# Altium footprint library PCBLib.PcbLib: 168 footprints (part 3 of 11)
Each footprint in its own frame and in the unit in brackets; x right, y up, seen from the top. Pads: shape width x height; smd on the part's side, far side on the other; paste and mask are expansions set on the pad; w line width, h text height; cw(c..) or ccw(c..) is an arc to the next point about the centre after c.
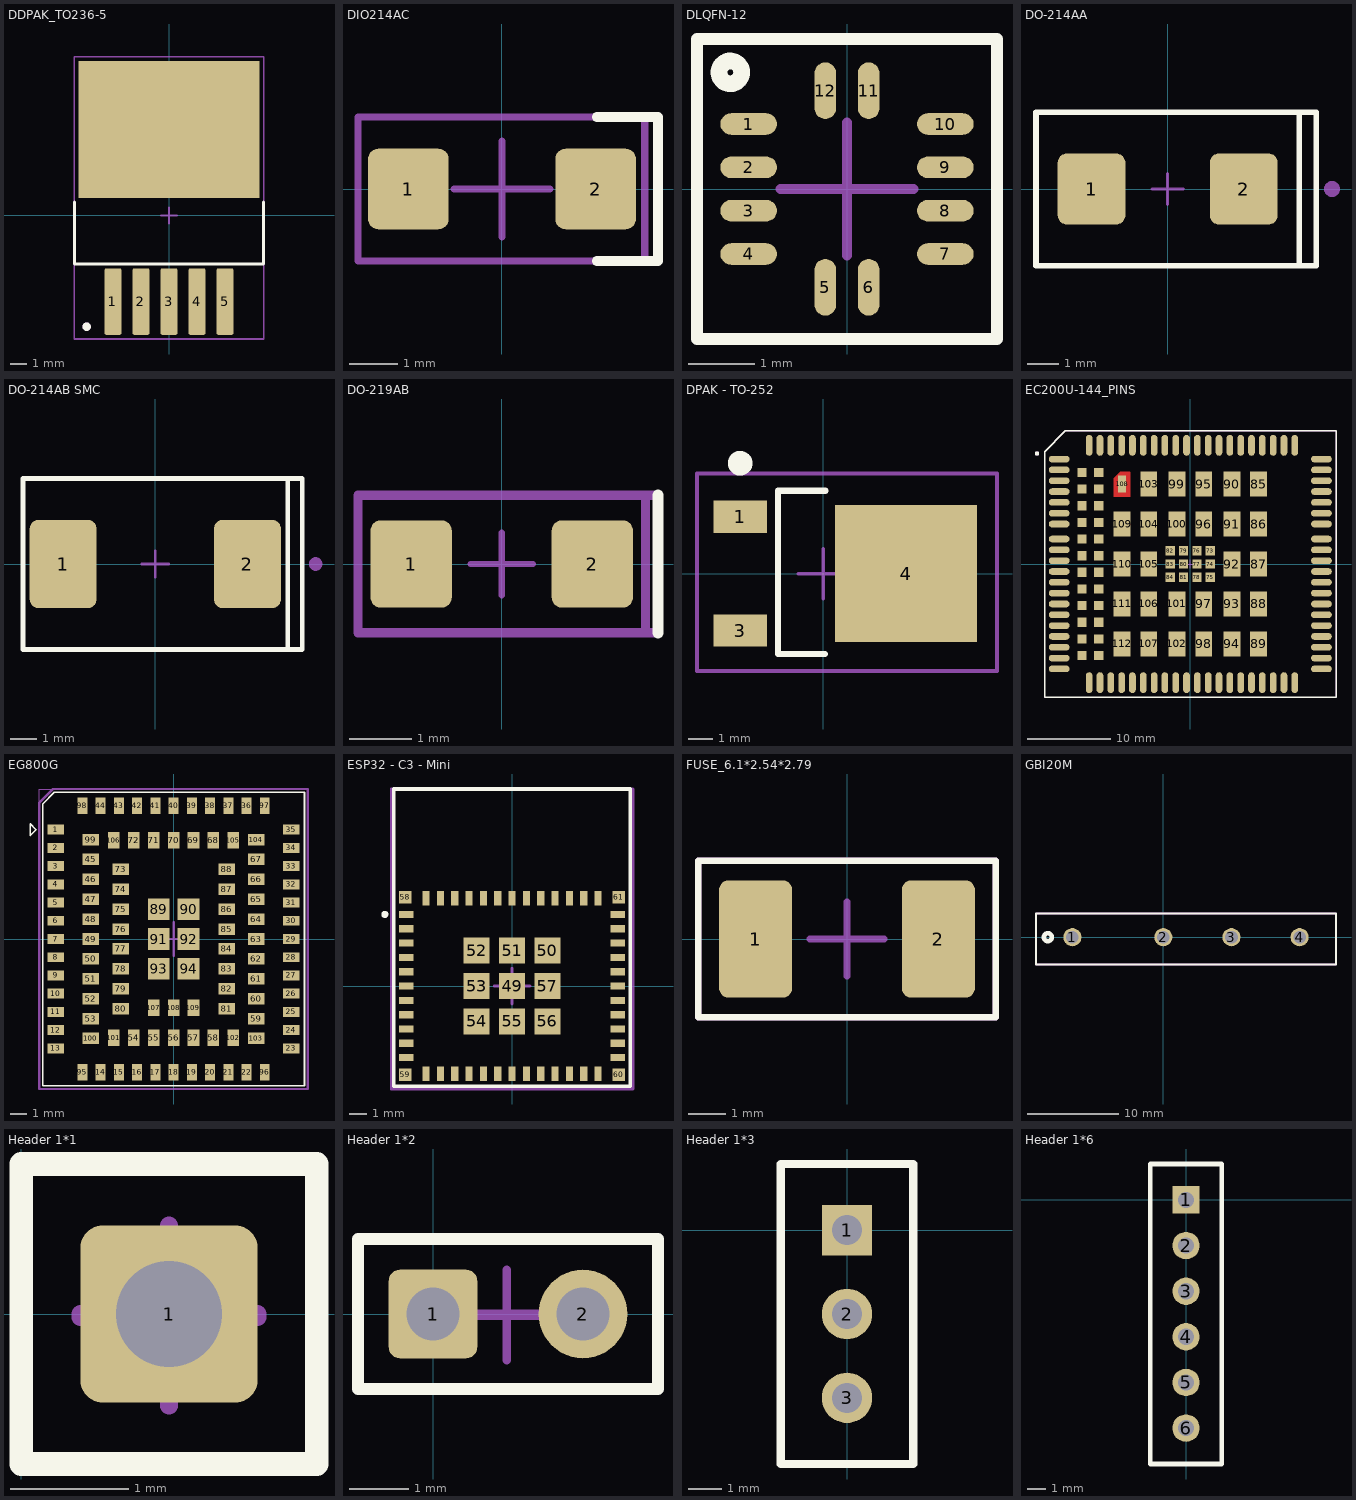
[diagram p2: the footprints below, top view; thin cyan lines are the x and y axes]

## DDPAK_TO236-5 [mm] "MIC29302WU"
pads (6):
  rrect25% 1.04x4.04 smd: 1(-3.4,-5.225) 2(-1.7,-5.225) 3(0,-5.225) 4(1.7,-5.225) 5(3.4,-5.225)
  rrect0% 10.98x8.31 smd: ""(0,5.225)
Top Overlay:
  circle w0.254: c-5,-6.75 r0.127
  lines w0.18: -5.744,0.816 -5.744,-2.951 5.744,-2.951 5.744,0.816
Top Assembly:
  circle w0.254: c-5,-6.75 r0.127
  lines w0.1: -5.744,-7.499 5.744,-7.499 5.744,9.634 -5.744,9.634 -5.744,-7.499
Top Component Center:
  lines w0.1: -0.5,0 0.5,0 ; 0,-0.5 0,0.5
Top Courtyard:
  lines w0.05: -5.744,-7.499 5.744,-7.499 5.744,9.634 -5.744,9.634 -5.744,-7.499
Top Designator:
  text ".Designator" at -3.809,-0.254 h0.76
3D body "MIC29302WU--3DModel-STEP-56544.STEP": height 4.93, standoff -0.15, extent -5.16,-6.205 5,8.705

## DIO214AC [mm]
pads (2):
  rrect25% 1.68x1.68 smd mask+0.05: 1(-1.95,0) 2(1.95,0)
Top Overlay:
  lines w0.2: 1.972,-1.5 3.25,-1.5 3.25,0.403 3.25,1.5 1.972,1.5
Top Assembly:
  lines w0.15: 2.972,-1.5 2.972,1.5 ; -3,-1.5 -3,1.5 3.25,1.5 3.25,-1.5 -3,-1.5
Top Component Center:
  lines w0.15: -1,0 1,0 ; 0,-1 0,1
Top Courtyard:
  lines w0.05: -3,-1.5 -3,1.5 3.25,1.5 3.25,-1.5 -3,-1.5
Top Designator:
  text ".Designator" at -3.809,-0.254 h0.76
3D body "SMA Package.step": height 2.07, standoff -0.1, extent -2.522,-1.35 2.572,1.315

## DLQFN-12 [mm] "SOT2197-1(SC)"
pads (12):
  oval 0.85x0.325 smd mask+0.05: 1(-1.475,0.975) 2(-1.475,0.325) 3(-1.475,-0.325) 4(-1.475,-0.975) 7(1.475,-0.975) 8(1.475,-0.325) 9(1.475,0.325) 10(1.475,0.975)
  oval 0.325x0.85 smd mask+0.05: 5(-0.325,-1.475) 6(0.325,-1.475) 11(0.325,1.475) 12(-0.325,1.475)
Top Overlay:
  circle w0.25: c-1.75,1.75 r0.17
  lines w0.18: -2.25,-2.25 2.25,-2.25 2.25,2.25 -2.25,2.25 -2.25,-2.25
Top Assembly:
  circle w0.18: c-1.75,1.75 r0.17
  lines w0.15: -2.25,-2.25 -2.25,2.25 2.25,2.25 2.25,-2.25 -2.25,-2.25
Top Component Center:
  lines w0.15: -1,0 1,0 ; 0,-1 0,1
Top Courtyard:
  lines w0.05: -2.25,-2.25 -2.25,2.25 2.25,2.25 2.25,-2.25 -2.25,-2.25
Top Designator:
  text ".Designator" at -3.809,-0.254 h0.76
3D body "FXLS8971CF.stp": height 1.4, standoff 0.1, extent -1.5,-1.5 1.5,1.5

## DO-214AA [mm]
pads (2):
  rrect25% 2.16x2.26 smd: 1(-2.43,0) 2(2.43,0)
Top Overlay:
  lines w0.18: -4.204,-2.45 -4.204,2.45 ; -4.2,-2.45 4.75,-2.45 4.75,2.45 -4.2,2.45 ; 4.204,-2.45 4.204,2.45
Top Assembly:
  circle w0.254: c5.25,0 r0.127
  lines w0.1: -4.204,-2.45 -4.204,2.45 ; -4.175,-2.45 4.761,-2.45 ; -4.175,2.45 4.731,2.45 ; 4.204,-2.45 4.204,2.45 ; 4.75,-2.45 4.75,2.45
Top Component Center:
  lines w0.1: -0.5,0 0.5,0 ; 0,-0.5 0,0.5
Top Courtyard:
  lines w0.05: -4.204,-2.45 -4.204,2.45 ; -4.2,-2.45 4.768,-2.45 ; -4.2,2.45 4.749,2.45 ; 4.204,-2.45 4.204,2.45
Top Designator:
  text ".Designator" at -3.809,-0.254 h0.76
3D body "SMBJ_DO-214AA_SMB_J-BEND_LTF.step": height 2.67, standoff 0, extent -2.794,-1.968 2.794,1.968

## DO-214AB SMC [mm]
pads (2):
  rrect25% 2.5x3.3 smd: 1(-3.45,0) 2(3.45,0)
Top Overlay:
  lines w0.18: 4.954,2.636 4.954,2.654 ; 5.5,3.182 5.5,3.2 ; 4.954,-3.2 5.5,-3.2 5.5,3.2 ; 4.954,-3.2 4.954,3.2 ; 4.954,-3.2 -4.954,-3.2 -4.954,3.2 4.954,3.2 ; 4.954,3.2 5.5,3.2
Top Assembly:
  circle w0.254: c6,0 r0.127
  lines w0.1: 4.954,-3.2 -4.954,-3.2 -4.954,3.2 4.954,3.2 ; 4.954,-3.2 4.954,3.2 ; 4.954,-3.2 5.5,-3.2 5.5,3.2 4.954,3.2
Top Component Center:
  lines w0.1: -0.5,0 0.5,0 ; 0,-0.5 0,0.5
Top Courtyard:
  lines w0.05: -4.954,-3.2 4.954,-3.2 4.954,3.2 -4.954,3.2 -4.954,-3.2
Top Designator:
  text ".Designator" at -3.809,-0.254 h0.76
3D body "B560C-13-F.step": height 2.5, standoff 0, extent -3.97,-3 3.97,2.905

## DO-219AB [mm]
pads (2):
  rrect25% 1.3x1.4 smd mask+0.05: 1(-1.45,0) 2(1.45,0)
Top Overlay:
  lines w0.18: 2.5,-1.1 2.5,1.1
Top Assembly:
  lines w0.15: 2.3,-1.1 2.3,0.15 2.3,1.1 ; -2.3,-1.1 -2.3,1.1 2.5,1.1 2.5,-1.1 -2.3,-1.1
Top Component Center:
  lines w0.1: -0.5,0 0.5,0 ; 0,-0.5 0,0.5
Top Courtyard:
  lines w0.05: -2.3,-1.1 -2.3,1.1 2.3,1.1 2.3,-1.1 -2.3,-1.1
Top Designator:
  text ".Designator" at -3.809,-0.254 h0.76
3D body "SMF(DO-219).step": height 1.19, standoff 0, extent -1.95,-0.95 1.95,0.95

## DPAK - TO-252 [mm]
pads (3):
  rect 2.15x1.3 smd: 1(-3.333,2.285) 3(-3.333,-2.285)
  rect 5.7x5.5 smd: 4(3.333,0)
Top Overlay:
  circle w0.5: c-3.333,4.435 r0.247
  lines w0.254: -1.817,3.325 -1.817,-3.225 0.072,-3.225 ; -1.793,3.325 0.096,3.325
Top Assembly:
  lines w0.15: -5.068,-3.907 6.983,-3.907 6.983,4.023 -5.068,4.023 -5.068,-3.907
Top Component Center:
  lines w0.15: -1,0 1,0 ; 0,-1 0,1
Top Courtyard:
  lines w0.05: -5.068,-3.907 6.983,-3.907 6.983,4.023 -5.068,4.023 -5.068,-3.907
Top Designator:
  text ".Designator" at -0.254,3.809 h0.76
3D body "LM1117IDTX-5.0_NOPB.step": height 2.55, standoff -0.17, extent -4.247,-3.228 5.663,3.312

## EC200U-144_PINS [mm]
pads (144):
  oval 2.5x0.8 smd mask+0.05: 1(-15.75,12.6) 2(-15.75,11.3) 3(-15.75,10) 4(-15.75,8.7) 5(-15.75,7.4) 6(-15.75,6.1) 7(-15.75,4.8) 8(-15.75,0.4) 9(-15.75,-0.9) 10(-15.75,-2.2) 11(-15.75,-3.5) 12(-15.75,-4.8) 13(-15.75,-6.1) 14(-15.75,-7.4) 15(-15.75,-8.7) 16(-15.75,-10) 17(-15.75,-11.3) 18(-15.75,-12.6) 37(15.75,-12.6) 38(15.75,-11.3) 39(15.75,-10) 40(15.75,-8.7) 41(15.75,-7.4) 42(15.75,-6.1) 43(15.75,-4.8) 44(15.75,-3.5) 45(15.75,-2.2) 46(15.75,-0.9) 47(15.75,0.4) 48(15.75,4.8) 49(15.75,6.1) 50(15.75,7.4) 51(15.75,8.7) 52(15.75,10) 53(15.75,11.3) 54(15.75,12.6) 141(-15.75,3) 142(-15.75,1.7) 143(15.75,1.7) 144(15.75,3)
  oval 0.8x2.5 smd mask+0.05: 19(-9.55,-14.25) 20(-8.25,-14.25) 21(-6.95,-14.25) 22(-5.65,-14.25) 23(-4.35,-14.25) 24(-3.05,-14.25) 25(-1.75,-14.25) 26(-0.45,-14.25) 27(0.85,-14.25) 28(2.15,-14.25) 29(3.45,-14.25) 30(4.75,-14.25) 31(6.05,-14.25) 32(7.35,-14.25) 33(8.65,-14.25) 34(9.95,-14.25) 35(11.25,-14.25) 36(12.55,-14.25) 55(12.55,14.25) 56(11.25,14.25) 57(9.95,14.25) 58(8.65,14.25) 59(7.35,14.25) 60(6.05,14.25) 61(4.75,14.25) 62(3.45,14.25) 63(2.15,14.25) 64(0.85,14.25) 65(-0.45,14.25) 66(-1.75,14.25) 67(-3.05,14.25) 68(-4.35,14.25) 69(-5.65,14.25) 70(-6.95,14.25) 71(-8.25,14.25) 72(-9.55,14.25) 113(-10.85,14.25) 114(-12.15,14.25) 115(-10.85,-14.25) 116(-12.15,-14.25)
  rect 1.1x1.1 smd mask+0.05: 73(2.4,1.6) 74(2.4,0) 75(2.4,-1.6) 76(0.8,1.6) 77(0.8,0) 78(0.8,-1.6) 79(-0.8,1.6) 80(-0.8,0) 81(-0.8,-1.6) 82(-2.4,1.6) 83(-2.4,0) 84(-2.4,-1.6) 117(-11,11) 118(-11,9) 119(-11,7) 120(-11,5) 121(-11,3) 122(-11,1) 123(-11,-1) 124(-11,-3) 125(-11,-5) 126(-11,-7) 127(-11,-9) 128(-11,-11) 129(-13,11) 130(-13,9) 131(-13,7) 132(-13,5) 133(-13,3) 134(-13,1) 135(-13,-1) 136(-13,-3) 137(-13,-5) 138(-13,-7) 139(-13,-9) 140(-13,-11)
  rect 2x3 smd mask+0.05: 85(8.2,9.6) 86(8.2,4.8) 87(8.2,0) 88(8.2,-4.8) 89(8.2,-9.6) 90(5,9.6) 91(5,4.8) 92(5,0) 93(5,-4.8) 94(5,-9.6) 95(1.6,9.6) 96(1.6,4.8) 97(1.6,-4.8) 98(1.6,-9.6) 99(-1.6,9.6) 100(-1.6,4.8) 101(-1.6,-4.8) 102(-1.6,-9.6) 103(-5,9.6) 104(-5,4.8) 105(-5,0) 106(-5,-4.8) 107(-5,-9.6) 109(-8.2,4.8) 110(-8.2,0) 111(-8.2,-4.8) 112(-8.2,-9.6)
  rect 1x2 smd mask+0.05: 108(-8.2,9.6)
Top Layer:
  region: -9.2,10.3 -8.4,11.1 -7.2,11.1 -7.2,8.1 -9.2,8.1
Top Overlay:
  circle w0.254: c-18.406,13.272 r0.127
  lines w0.18: -17.5,-16 -17.5,13.5 -15,16 17.5,16 17.5,-16 -17.5,-16
Top Paste:
  region: -9.2,10.3 -8.4,11.1 -7.2,11.1 -7.2,8.1 -9.2,8.1
Top Solder:
  region: -9.25,8.05 -7.15,8.05 -7.15,11.15 -8.45,11.15 -9.25,10.35
Top Assembly:
  circle w0.254: c-18.406,13.272 r0.127
  lines w0.1: -17.5,-16 -17.5,13.5 -15,16 17.5,16 17.5,-16 -17.5,-16
Top Component Center:
  lines w0.1: -0.5,0 0.5,0 ; 0,-0.5 0,0.5
Top Courtyard:
  circle w0.254: c-18.406,13.272 r0.127
  lines w0.05: -17.5,-16 -17.5,13.5 -15,16 17.5,16 17.5,-16 -17.5,-16
Top Designator:
  text ".Designator" at -3.809,-0.254 h0.76
3D body "EC200U.stp": height 2.4, standoff 0, extent -15.5,-14 15.5,14

## EG800G [mm]
pads (109):
  rect 1x0.6 smd mask+0.05: 1(-7.1,6.6) 2(-7.1,5.5) 3(-7.1,4.4) 4(-7.1,3.3) 5(-7.1,2.2) 6(-7.1,1.1) 7(-7.1,0) 8(-7.1,-1.1) 9(-7.1,-2.2) 10(-7.1,-3.3) 11(-7.1,-4.4) 12(-7.1,-5.5) 13(-7.1,-6.6) 23(7.1,-6.6) 24(7.1,-5.5) 25(7.1,-4.4) 26(7.1,-3.3) 27(7.1,-2.2) 28(7.1,-1.1) 29(7.1,0) 30(7.1,1.1) 31(7.1,2.2) 32(7.1,3.3) 33(7.1,4.4) 34(7.1,5.5) 35(7.1,6.6)
  rect 0.6x1 smd mask+0.05: 14(-4.4,-8.05) 15(-3.3,-8.05) 16(-2.2,-8.05) 17(-1.1,-8.05) 18(0,-8.05) 19(1.1,-8.05) 20(2.2,-8.05) 21(3.3,-8.05) 22(4.4,-8.05) 36(4.4,8.05) 37(3.3,8.05) 38(2.2,8.05) 39(1.1,8.05) 40(0,8.05) 41(-1.1,8.05) 42(-2.2,8.05) 43(-3.3,8.05) 44(-4.4,8.05) 95(-5.5,-8.05) 96(5.5,-8.05) 97(5.5,8.05) 98(-5.5,8.05)
  rect 1x0.7 smd mask+0.05: 45(-5,4.8) 46(-5,3.6) 47(-5,2.4) 48(-5,1.2) 49(-5,0) 50(-5,-1.2) 51(-5,-2.4) 52(-5,-3.6) 53(-5,-4.8) 59(5,-4.8) 60(5,-3.6) 61(5,-2.4) 62(5,-1.2) 63(5,0) 64(5,1.2) 65(5,2.4) 66(5,3.6) 67(5,4.8) 73(-3.2,4.2) 74(-3.2,3) 75(-3.2,1.8) 76(-3.2,0.6) 77(-3.2,-0.6) 78(-3.2,-1.8) 79(-3.2,-3) 80(-3.2,-4.2) 81(3.2,-4.2) 82(3.2,-3) 83(3.2,-1.8) 84(3.2,-0.6) 85(3.2,0.6) 86(3.2,1.8) 87(3.2,3) 88(3.2,4.2) 99(-5,6) 100(-5,-6) 103(5,-6) 104(5,6)
  rect 0.7x1 smd mask+0.05: 54(-2.4,-5.95) 55(-1.2,-5.95) 56(0,-5.95) 57(1.2,-5.95) 58(2.4,-5.95) 68(2.4,5.95) 69(1.2,5.95) 70(0,5.95) 71(-1.2,5.95) 72(-2.4,5.95) 101(-3.6,-5.95) 102(3.6,-5.95) 105(3.6,5.95) 106(-3.6,5.95) 107(-1.2,-4.15) 108(0,-4.15) 109(1.2,-4.15)
  rect 1.3x1.3 smd mask+0.05: 89(-0.9,1.8) 90(0.9,1.8) 91(-0.9,0) 92(0.9,0) 93(-0.9,-1.8) 94(0.9,-1.8)
Top Overlay:
  lines w0.1: -8.654,6.247 -8.3,6.6 -8.654,6.954 -8.654,6.247 ; -7.9,-8.85 7.9,-8.85 7.9,8.85 -7.2,8.85 -7.9,8.15 -7.9,-8.85
Top Assembly:
  lines w0.15: -8.1,-9.05 -8.1,8.233 -7.283,9.05 8.1,9.05 8.1,-9.05 -8.1,-9.05
Top Component Center:
  lines w0.15: -1,0 1,0 ; 0,-1 0,1
Bottom Component Center:
  lines w0.01: -8.1,-9.05 -8.1,8.233 -7.283,9.05 8.1,9.05 8.1,8.05 8.1,-9.05 -8.1,-9.05
Top Courtyard:
  lines w0.05: -8.1,-9.05 8.1,-9.05 8.1,9.05 -8.1,9.05 -8.1,-9.05
Top Designator:
  text ".Designator" at -3.809,-0.254 h0.76
3D body "Quectel_EG800G_Series_3D_Dimensions_V1.0.stp": height 2.4, standoff 0, extent -7.9,-8.85 7.9,8.85

## ESP32 - C3 - Mini [mm]
pads (61):
  rect 0.8x0.4 smd: 1(-5.9,4) 2(-5.9,3.2) 3(-5.9,2.4) 4(-5.9,1.6) 5(-5.9,0.8) 6(-5.9,0) 7(-5.9,-0.8) 8(-5.9,-1.6) 9(-5.9,-2.4) 10(-5.9,-3.2) 11(-5.9,-4) 25(5.9,-4) 26(5.9,-3.2) 27(5.9,-2.4) 28(5.9,-1.6) 29(5.9,-0.8) 30(5.9,0) 31(5.9,0.8) 32(5.9,1.6) 33(5.9,2.4) 34(5.9,3.2) 35(5.9,4)
  rect 0.4x0.8 smd: 12(-4.8,-4.9) 13(-4,-4.9) 14(-3.2,-4.9) 15(-2.4,-4.9) 16(-1.6,-4.9) 17(-0.8,-4.9) 18(0,-4.9) 19(0.8,-4.9) 20(1.6,-4.9) 21(2.4,-4.9) 22(3.2,-4.9) 23(4,-4.9) 24(4.8,-4.9) 36(4.8,4.9) 37(4,4.9) 38(3.2,4.9) 39(2.4,4.9) 40(1.6,4.9) 41(0.8,4.9) 42(0,4.9) 43(-0.8,4.9) 44(-1.6,4.9) 45(-2.4,4.9) 46(-3.2,4.9) 47(-4,4.9) 48(-4.8,4.9)
  rect 1.45x1.45 smd: 49(0,0) 50(1.975,1.975) 51(0,1.975) 52(-1.975,1.975) 53(-1.975,0) 54(-1.975,-1.975) 55(0,-1.975) 56(1.975,-1.975) 57(1.975,0)
  rect 0.7x0.7 smd: 58(-5.95,4.95) 59(-5.95,-4.95) 60(5.95,-4.95) 61(5.95,4.95)
Top Overlay:
  lines w0.2: -7.2,4 cw(c-7.1,4) -7,4 cw(c-7.1,4) -7.2,4 ; -6.6,-5.6 -6.6,5.7 -6.6,11 6.6,11 6.6,5.7 6.6,-5.6 -6.6,-5.6
Top Assembly:
  lines w0.15: -6.75,-5.75 -6.75,11 6.75,11 6.75,-5.75 -6.75,-5.75
Top Component Center:
  lines w0.15: -1,0 1,0 ; 0,-1 0,1
Top Courtyard:
  lines w0.05: -6.75,-5.75 -6.75,11 6.75,11 6.75,-5.75 -6.75,-5.75
Top Designator:
  text ".Designator" at -3.809,-0.254 h0.76
3D body "ESP32-C3-MINI-1-N4.stp": height 2.4, standoff 0, extent -6.596,-5.633 6.604,10.967

## FUSE_6.1*2.54*2.79 [mm] "0.240\" L x 0.100\" W x 0.110\" H (6.10mm x 2.54mm x 2.79mm)"
pads (2):
  rrect25% 1.96x3.15 smd mask+0.05: 1(-2.455,0) 2(2.455,0)
Top Overlay:
  lines w0.18: -4,-2.1 -4,2.1 4,2.1 4,-2.1 -4,-2.1
Top Assembly:
  lines w0.18: -4,-2.1 -4,2.1 4,2.1 4,-2.1 -4,-2.1
Top Component Center:
  lines w0.18: -1,0 1,0 ; 0,-1 0,1
Top Courtyard:
  lines w0.05: -4,-2.1 -4,2.1 4,2.1 4,-2.1 -4,-2.1
Top Designator:
  text ".Designator" at -3.806,-0.254 h0.76
3D body "0679H8000-05.step": height 2.79, standoff 0, extent -3.05,-1.27 3.05,1.27

## GBI20M [mm]
pads (4):
  round 2 hole 1.4 mask+0.05: 1(-10,0) 2(0,0) 3(7.5,0) 4(15,0)
Top Overlay:
  circle w0.5: c-12.696,0 r0.437
  lines w0.18: -14,-3 19,-3 19,2.6 -14,2.6 -14,-3
Top Assembly:
  lines w0.18: -14,-3 19,-3 19,2.6 -14,2.6 -14,-3
Top Courtyard:
  lines w0.18: -14,-3 19,-3 19,2.6 -14,2.6 -14,-3
Top Designator:
  text ".Designator" at -0.2,-0.254 h0.76
3D body "30x20x3.6.stp": height 17, standoff -15, extent -13.5,-2.8 18.5,2.82

## Header 1*1 [mm]
pads (1):
  rrect25% 1.5x1.5 hole 0.9 mask+0.05: 1(1.25,0)
Top Overlay:
  lines w0.2: 0,-1.27 0,1.27 2.5,1.27 2.5,-1.27 0,-1.27
Bottom Overlay:
  lines w0.2: 0,-1.27 0,1.27 2.5,1.27 2.5,-1.27 0,-1.27
Top Assembly:
  lines w0.1: 0,-1.27 2.5,-1.27 2.5,1.27 0,1.27 0,-1.27
Bottom Assembly:
  lines w0.1: 0,-1.27 2.5,-1.27 2.5,1.27 0,1.27 0,-1.27
Top Component Center:
  lines w0.15: 0.5,0 1.25,0 ; 1.25,-0.75 1.25,0 ; 1.25,0.75 1.25,0 ; 2,0 1.25,0
Bottom Component Center:
  lines w0.15: 0.5,-0.028 1.25,-0.028 ; 1.25,-0.778 1.25,-0.028 ; 1.25,0.722 1.25,-0.028 ; 2,-0.028 1.25,-0.028
Top Courtyard:
  lines w0.1: 0,-1.27 0,1.27 2.5,1.27 2.5,-1.27 0,-1.27
Bottom Courtyard:
  lines w0.1: 0,-1.27 0,1.27 2.5,1.27 2.5,-1.27 0,-1.27
Top Designator:
  text ".Designator" at -2.573,-0.254 h0.76

## Header 1*2 [mm]
pads (2):
  rrect25% 1.5x1.5 hole 0.9 mask+0.05: 1(0,0)
  round 1.5 hole 0.9 mask+0.05: 2(2.54,0)
Top Overlay:
  lines w0.2: -1.27,-1.27 3.81,-1.27 3.81,1.27 -1.27,1.27 -1.27,-1.27
Bottom Overlay:
  lines w0.2: -1.27,-1.27 3.81,-1.27 3.81,1.27 -1.27,1.27 -1.27,-1.27
Top Assembly:
  lines w0.1: -1.27,-1.27 -1.27,1.27 3.81,1.27 3.81,-1.27 -1.27,-1.27
Bottom Assembly:
  lines w0.1: -1.27,-1.27 -1.27,1.27 3.81,1.27 3.81,-1.27 -1.27,-1.27
Top Component Center:
  lines w0.15: 0.5,0 1.25,0 ; 1.25,-0.75 1.25,0 ; 1.25,0.75 1.25,0 ; 2,0 1.25,0
Bottom Component Center:
  lines w0.15: 0.5,-0.028 1.25,-0.028 ; 1.25,-0.778 1.25,-0.028 ; 1.25,0.722 1.25,-0.028 ; 2,-0.028 1.25,-0.028
Top Courtyard:
  lines w0.1: -1.27,-1.27 3.81,-1.27 3.81,1.27 -1.27,1.27 -1.27,-1.27
Bottom Courtyard:
  lines w0.1: -1.27,-1.27 3.81,-1.27 3.81,1.27 -1.27,1.27 -1.27,-1.27
Top Designator:
  text ".Designator" at -2.573,-0.254 h0.76

## Header 1*3 [mil]
pads (3):
  rect 60x60 hole 35.43: 1(0,0)
  round 60 hole 35.43: 2(0,-100) 3(0,-200)
Top Overlay:
  lines w10: 76.77,78.74 -78.74,78.74 -78.74,-278.74 78.74,-278.74 78.74,78.74

## Header 1*6 [mil]
pads (6):
  rect 60x60 hole 35.43: 1(0,0)
  round 60 hole 35.43: 2(0,-100) 3(0,-200) 4(0,-300) 5(0,-400) 6(0,-500)
Top Overlay:
  lines w10: 76.77,-578.74 -78.74,-578.74 -78.74,78.74 76.77,78.74 ; 78.74,-578.74 78.74,78.74